# Altium schematic symbol library Schlib1.SchLib: 1 symbol
Pins are listed as number, name and electrical type; pins without a type are passive.

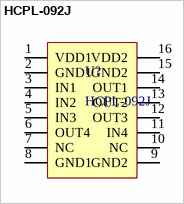
[diagram p0: symbol HCPL-092J]

## HCPL-092J
designator U?
pins: 1 VDD1, 2 GND1, 3 IN1, 4 IN2, 5 IN3, 6 OUT4, 7 NC, 8 GND1, 9 GND2, 10 NC, 11 IN4, 12 OUT3, 13 OUT2, 14 OUT1,   15 GND2,   16 VDD2